# Altium schematic symbol library SCH_ugp.SchLib: 13 symbols
Pins are listed as number, name and electrical type; pins without a type are passive.

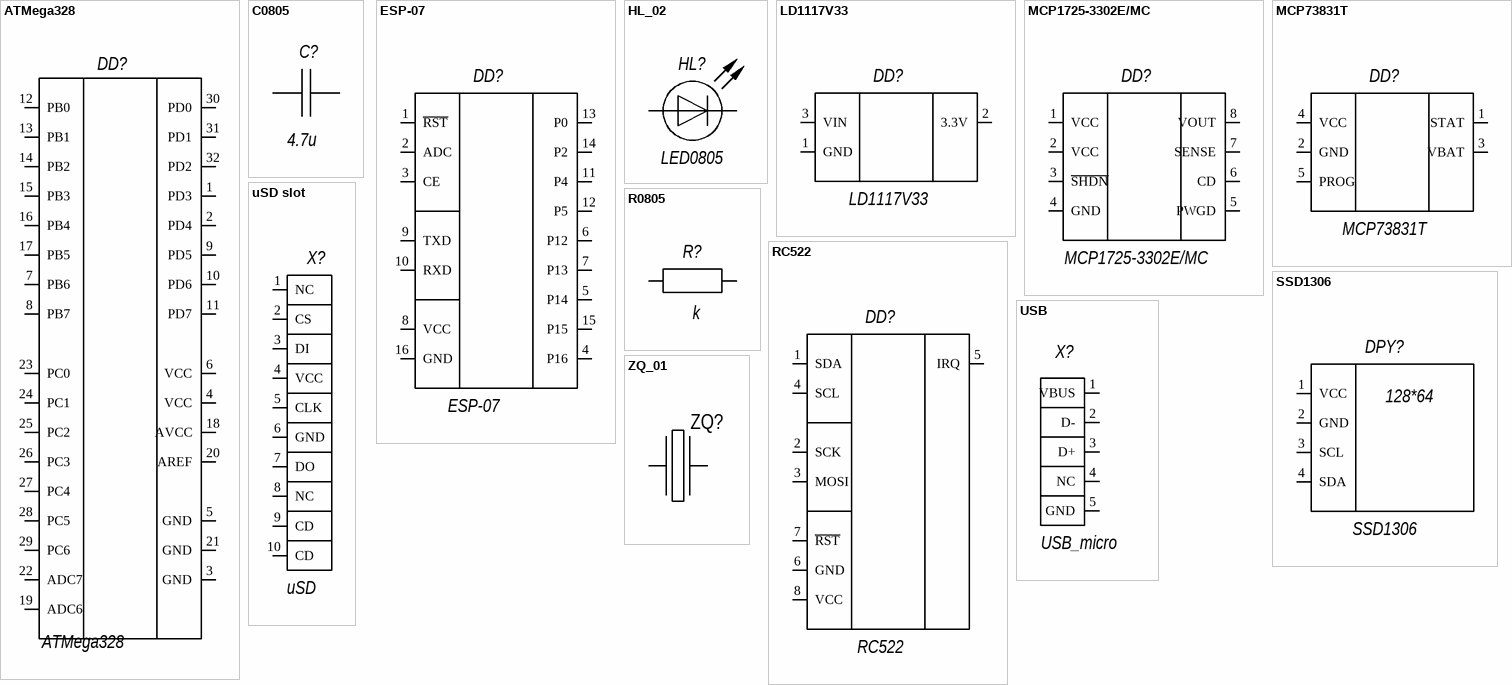
[diagram p0: symbols ATMega328 to ZQ_01]

## ATMega328
designator DD?
Atmel ATMega328 MCU; Part Number: ATmega328P; ValueDescription: zbs; ValueType: 1; Manufacter: ATMEL; ValueManufacturerPartNumber: ATMega328P; ValueManufacturer: ATMEL
footprint TQFP80P900X900X120-32N (TQFP, 32-Leads, Body 7,00x7,00mm, Pitch 0,80mm, IPC Medium Density)
pins: 1 PD3, 2 PD4, 3 GND, 4 VCC, 5 GND, 6 VCC, 7 PB6, 8 PB7, 9 PD5, 10 PD6, 11 PD7, 12 PB0, 13 PB1, 14 PB2, 15 PB3, 16 PB4, 17 PB5, 18 AVCC, 19 ADC6, 20 AREF, 21 GND, 22 ADC7, 23 PC0, 24 PC1, 25 PC2, 26 PC3, 27 PC4, 28 PC5, 29 PC6, 30 PD0, 31 PD1, 32 PD2

## C0805
designator C?  value 4.7u  (hidden comment: C0805)
Chip capasitor; Manufacter: MURATA; Part Number: GRJ32ER71H475KE11; Voltage: 50V; Tolerance: ±5%; Rem: SMD 0805
footprint CAPC2113X06N (Chip Capacitor, 2-Leads, Body 2,10x1,30mm, IPC Medium Density)
pins: 1, 2

## ESP-07
designator DD?
ESP8266 Wi-Fi module; Manufacter: Espressif Systems; Part Number: ESP-07 ESP8266 модуль
footprint ESP-07 (ESP8266 ESP-07 Module)
pins: 1 ~{RST}, 2 ADC, 3 CE, 4 P16, 5 P14, 6 P12, 7 P13, 8 VCC, 9 TXD, 10 RXD, 11 P4, 12 P5, 13 P0, 14 P2, 15 P15, 16 GND

## HL_02
designator HL?, comment LED0805
Светодиод; Manufacter: Kingbright; Part Number: KP-2012VGC-A
footprint CAPC2113X06N (Chip Capacitor, 2-Leads, Body 2,10x1,30mm, IPC Medium Density)
pins: 1 A, 2 K

## LD1117V33
designator DD?
LD1117V33 3.3V Voltage regulator
pins: 1 GND, 2 3.3V, 3 VIN

## MCP1725-3302E/MC
designator DD?
MCP1725-3302E/MC ULDO; Manufacter: Microchip; Part Number: MCP1725-3302E/MC
footprint SOIC127P600X175-8N (SOIC, 8-Leads, Body 4,90x3,90mm, Pitch 1,27mm, IPC Medium Density)
pins: 1 VCC, 2 VCC, 3 ~{SHDN}, 4 GND, 5 PWGD, 6 CD, 7 SENSE, 8 VOUT

## MCP73831T
designator DD?
MCP73831T Li-ion/Li-po charger; Manufacter: Microchip; Part Number: MCP73831/2  SOT-23-5
footprint SOT95P270X145-5N (SOT23, 5-Leads, Body 2,90x2,70mm, Pitch 0,95mm, IPC Medium Density)
pins: 1 STAT, 2 GND, 3 VBAT, 4 VCC, 5 PROG

## R0805
designator R?  value k  (hidden comment: R0805)
Резистор; Manufacter: YAGEO; Part Number: RC0805JR-070RL; Voltage: 150V; Tolerance: ±5%
footprint CAPC2113X06N (Chip Capacitor, 2-Leads, Body 2,10x1,30mm, IPC Medium Density)
pins: 1 Terminal A, 2 Terminal B
7 alternate drawings of the same symbol

## RC522
designator DD?
RC522 RFID module; Manufacter: NXP; Part Number: RFID-RC522 MFRC522 модуль
footprint RFID-RC522 (NXP RFID Reader Module)
pins: 1 SDA, 2 SCK, 3 MOSI, 4 SCL, 5 IRQ, 6 GND, 7 ~{RST}, 8 VCC

## SSD1306
designator DPY?
SSD1306 OLED Screen; Manufacter: SOLOMON SYSTECH; Part Number: SSD1306 OLED модуль
footprint SSD
pins: 1 VCC, 2 GND, 3 SCL, 4 SDA
text: 128*64

## USB
designator X?, comment USB_micro
USB micro; Manufacter: MOLEX; Part Number: 47346-0001 uUSB роз'єм
footprint MiniUSB Socket (Connector; USB2.0, Type B, SM; 5 Position; Right Angle)
pins: 1 VBUS, 2 D-, 3 D+, 4 NC, 5 GND

## uSD slot
designator X?, comment uSD
uSD slot; Manufacter: MOLEX; Part Number: 47346-0001 uSD роз'єм
footprint MICROSD Slot (MicroSD Card Socket)
pins: 1 NC, 2 CS, 3 DI, 4 VCC, 5 CLK, 6 GND, 7 DO, 8 NC, 9 CD, 10 CD

## ZQ_01
designator ZQ?
Элемент пьезоэлектрический с двумя выводами; Manufacter: CITIZEN; Part Number: HC49/US 16MHz
footprint HC49
pins: 1, 2